# Altium footprint library BluePill.PcbLib: 1 footprints
Each footprint in its own frame and in the unit in brackets; x right, y up, seen from the top. Pads: shape width x height; smd on the part's side, far side on the other; paste and mask are expansions set on the pad; w line width, h text height; cw(c..) or ccw(c..) is an arc to the next point about the centre after c.
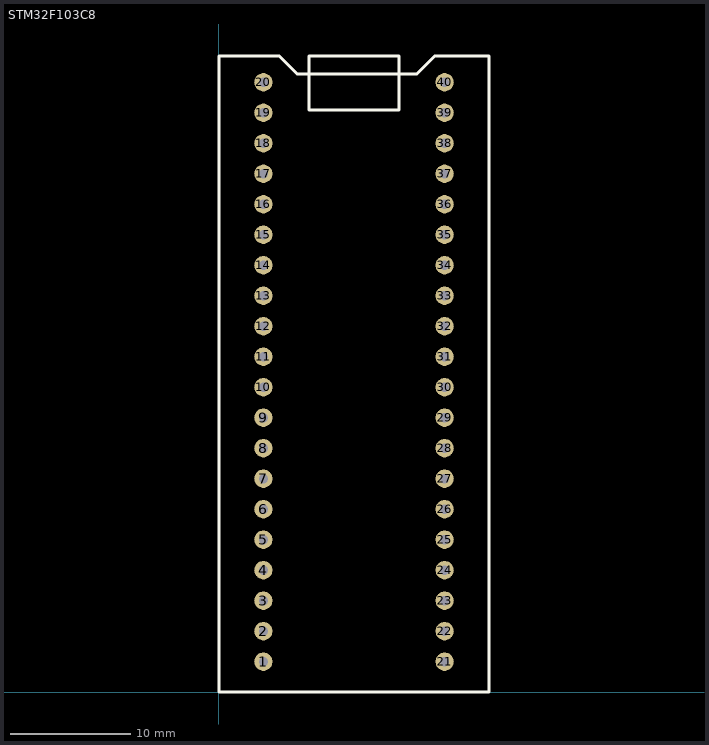
[diagram p0: the footprint, top view; thin cyan lines are the x and y axes]

## STM32F103C8 [mil] "Blue Pill STM32F103C8"
pads (40):
  round 60 hole 30: 1(145.67,100) 2(145.67,200) 3(145.67,300) 4(145.67,400) 5(145.67,500) 6(145.67,600) 7(145.67,700) 8(145.67,800) 9(145.67,900) 10(145.67,1000) 11(145.67,1100) 12(145.67,1200) 13(145.67,1300) 14(145.67,1400) 15(145.67,1500) 16(145.67,1600) 17(145.67,1700) 18(145.67,1800) 19(145.67,1900) 20(145.67,2000) 21(740.16,100) 22(740.16,200) 23(740.16,300) 24(740.16,400) 25(740.16,500) 26(740.16,600) 27(740.16,700) 28(740.16,800) 29(740.16,900) 30(740.16,1000) 31(740.16,1100) 32(740.16,1200) 33(740.16,1300) 34(740.16,1400) 35(740.16,1500) 36(740.16,1600) 37(740.16,1700) 38(740.16,1800) 39(740.16,1900) 40(740.16,2000)
Top Overlay:
  lines w10: 196.85,2086.61 196.85,2086.61 ; 196.85,2086.61 196.85,2086.61 ; 196.85,2086.61 255.91,2027.56 649.61,2027.56 708.66,2086.61 885.83,2086.61 885.83,0 0,0 0,2086.61 196.85,2086.61 ; 295.28,1909.45 295.28,2086.61 590.55,2086.61 590.55,1909.45 295.28,1909.45